# Altium footprint library Orion Sleep - Control Board - Rev 2.PcbLib: 102 footprints (part 4 of 7)
Each footprint in its own frame and in the unit in brackets; x right, y up, seen from the top. Pads: shape width x height; smd on the part's side, far side on the other; paste and mask are expansions set on the pad; w line width, h text height; cw(c..) or ccw(c..) is an arc to the next point about the centre after c.
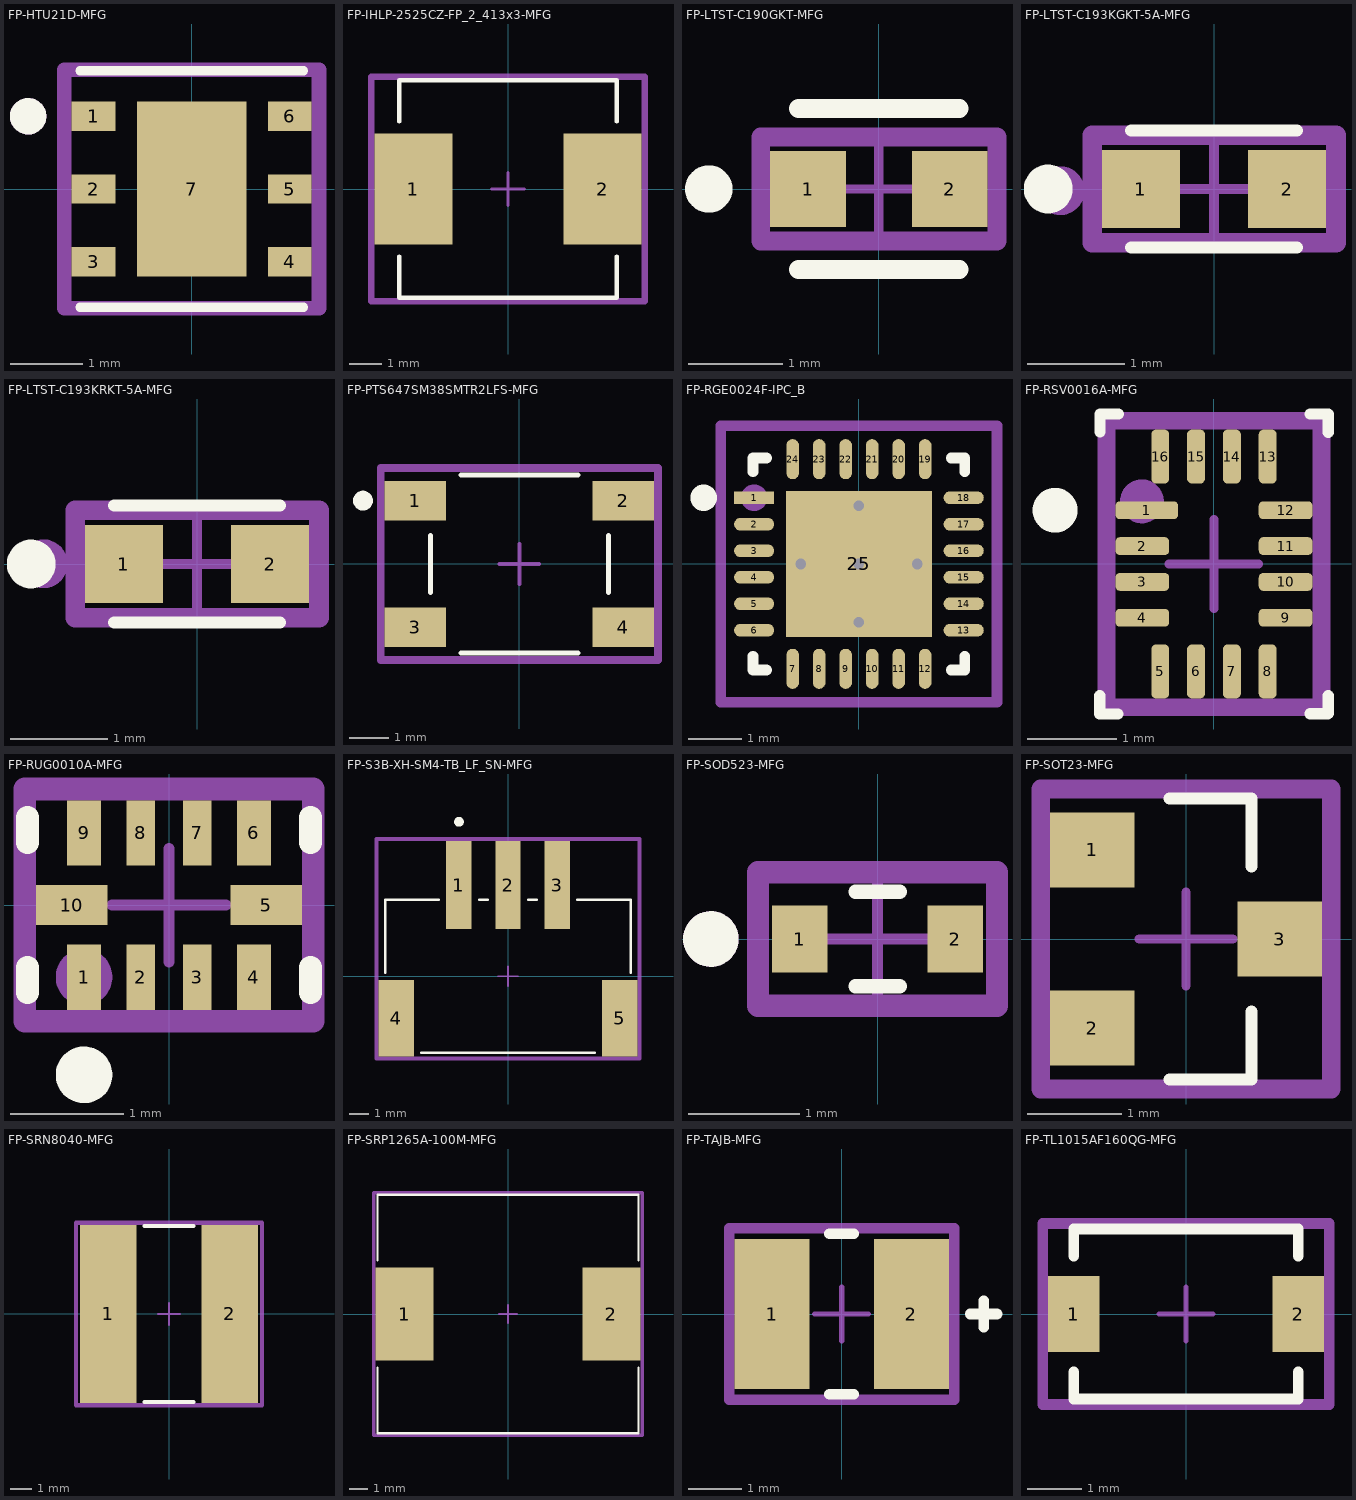
[diagram p3: the footprints below, top view; thin cyan lines are the x and y axes]

## FP-HTU21D-MFG [mm]
pads (7):
  rect 0.6x0.4 smd: 1(-1.35,1) 2(-1.35,0) 3(-1.35,-1) 4(1.35,-1) 5(1.35,0) 6(1.35,1)
  rect 1.5x2.4 smd: 7(0,0)
Top Overlay:
  circle w0.25: c-2.25,1 r0.125
  lines w0.127: -1.538,-1.625 1.538,-1.625 ; -1.538,1.625 1.538,1.625
Top Assembly:
  circle w0.25: c-2.25,1 r0.125
  lines w0.127: -1.75,-1.637 -1.75,1.637 1.75,1.637 1.75,-1.637 -1.75,-1.637
  text ".Designator" at -4.998,-0.333 h1
Top Courtyard:
  lines w0.2: -1.75,-1.637 -1.75,1.637 1.75,1.637 1.75,-1.637 -1.75,-1.637
Top Component Center:
  lines w0.1: -0.5,0 0.5,0 ; 0,-0.5 0,0.5
3D body "IC_TE_HTU21D_eec.STEP": height 1.01, standoff 0, extent -1.5,-1.5 1.5,1.5

## FP-IHLP-2525CZ-FP_2_413x3-MFG [mil]
pads (2):
  rect 95x135 smd: 1(-115,0) 2(115,0)
Top Overlay:
  lines w5: -132.36,-82.26 -132.36,-132.36 132.36,-132.36 132.36,-82.26 ; -132.36,82.26 -132.36,132.36 132.36,132.36 132.36,82.26
Top Assembly:
  lines w5: -166.44,-136.3 166.44,-136.3 166.44,136.3 -166.44,136.3 -166.44,-136.3
  text ".Designator" at -393.57,-26.24 h78.74
Top Courtyard:
  lines w7.87: -166.44,-136.3 166.44,-136.3 166.44,136.3 -166.44,136.3 -166.44,-136.3
Top Component Center:
  lines w3.94: -19.68,0 19.68,0 ; 0,-19.68 0,19.68
3D body "Ind_Vishay_IHLP2525CZER1R5M5A_eec.STEP": height 118.15, standoff 0, extent -135.04,-127.36 135.04,127.36

## FP-LTST-C190GKT-MFG [mm]
pads (2):
  rect 0.8x0.8 smd paste+0 mask+0: 1(-0.75,0) 2(0.75,0)
Top Overlay:
  circle w0.25: c-1.8,0 r0.125
  lines w0.2: -0.85,-0.85 0.85,-0.85 ; -0.85,0.85 0.85,0.85
Top Assembly:
  circle w0.127: c-1.8,0 r0.125
  lines w0.127: -1.25,-0.55 1.25,-0.55 1.25,0.55 -1.25,0.55 -1.25,-0.55
  text ".Designator" at -2.499,-0.167 h0.5
Top Courtyard:
  lines w0.2: -1.25,-0.55 1.25,-0.55 1.25,0.55 -1.25,0.55 -1.25,-0.55
Top Component Center:
  lines w0.1: -0.5,0 0.5,0 ; 0,-0.5 0,0.5
3D body "Diode_Lite-On_LTST-C190GKT_eec.STEP": height 0.9, standoff 0, extent -0.8,-0.4 0.8,0.4

## FP-LTST-C193KGKT-5A-MFG [mm]
pads (2):
  rect 0.8x0.8 smd: 1(-0.75,0) 2(0.75,0)
Top Overlay:
  circle w0.25: c-1.7,0 r0.125
  lines w0.127: -0.85,-0.6 0.85,-0.6 ; -0.85,0.6 0.85,0.6
Top Assembly:
  circle w0.25: c-1.576,-0.017 r0.125
  lines w0.127: -1.25,-0.55 1.25,-0.55 1.25,0.55 -1.25,0.55 -1.25,-0.55
  text ".Designator" at -2.499,-0.167 h0.5
Top Courtyard:
  lines w0.2: -1.25,-0.55 1.25,-0.55 1.25,0.55 -1.25,0.55 -1.25,-0.55
Top Component Center:
  lines w0.1: -0.5,0 0.5,0 ; 0,-0.5 0,0.5
3D body "Diode_Lite-On_LTST-C193KGKT-5A_eec.STEP": height 0.45, standoff 0, extent -0.8,-0.401 0.8,0.4

## FP-LTST-C193KRKT-5A-MFG [mm]
pads (2):
  rect 0.8x0.8 smd: 1(-0.75,0) 2(0.75,0)
Top Overlay:
  circle w0.25: c-1.7,0 r0.125
  lines w0.127: -0.85,-0.6 0.85,-0.6 ; -0.85,0.6 0.85,0.6
Top Assembly:
  circle w0.25: c-1.575,0.001 r0.125
  lines w0.127: -1.25,-0.55 1.25,-0.55 1.25,0.55 -1.25,0.55 -1.25,-0.55
  text ".Designator" at -2.499,-0.167 h0.5
Top Courtyard:
  lines w0.2: -1.25,-0.55 1.25,-0.55 1.25,0.55 -1.25,0.55 -1.25,-0.55
Top Component Center:
  lines w0.1: -0.5,0 0.5,0 ; 0,-0.5 0,0.5
3D body "Diode_Lite-On_LTST-C193KRKT-5A_eec.STEP": height 0.45, standoff 0, extent -0.8,-0.402 0.8,0.4

## FP-PTS647SM38SMTR2LFS-MFG [mm]
pads (4):
  rect 1.55x1 smd: 1(-2.625,1.6) 2(2.625,1.6) 3(-2.625,-1.6) 4(2.625,-1.6)
Top Overlay:
  circle w0.25: c-3.95,1.6 r0.125
  lines w0.127: -2.25,-0.725 -2.25,0.725 ; -1.475,-2.25 1.475,-2.25 ; -1.475,2.25 1.475,2.25 ; 2.25,-0.725 2.25,0.725
Top Assembly:
  circle w0.25: c-2.9,1.8 r0.125
  lines w0.127: -3.5,-2.425 -3.5,2.425 3.5,2.425 3.5,-2.425 -3.5,-2.425
  text ".Designator" at -9.997,-0.666 h2
Top Courtyard:
  lines w0.2: -3.5,-2.425 -3.5,2.425 3.5,2.425 3.5,-2.425 -3.5,-2.425
Top Component Center:
  lines w0.1: -0.5,0 0.5,0 ; 0,-0.5 0,0.5
3D body "Switch_C&K_Components_PTS647SM38SMTR2LFS_eec.STEP": height 3.8, standoff 0, extent -3.25,-2.25 3.25,2.25

## FP-RGE0024F-IPC_B [mm]
pads (25):
  rect 0.756x0.239 smd: 1(-1.978,1.25)
  rrect100% 0.756x0.239 smd: 2(-1.978,0.75) 3(-1.978,0.25) 4(-1.978,-0.25) 5(-1.978,-0.75) 6(-1.978,-1.25) 13(1.978,-1.25) 14(1.978,-0.75) 15(1.978,-0.25) 16(1.978,0.25) 17(1.978,0.75) 18(1.978,1.25)
  rrect100% 0.239x0.756 smd: 7(-1.25,-1.978) 8(-0.75,-1.978) 9(-0.25,-1.978) 10(0.25,-1.978) 11(0.75,-1.978) 12(1.25,-1.978) 19(1.25,1.978) 20(0.75,1.978) 21(0.25,1.978) 22(-0.25,1.978) 23(-0.75,1.978) 24(-1.25,1.978)
  rect 2.75x2.75 smd paste-2539.97: 25(0,0)
via 0,1.1 diameter 0.4 hole 0.2
via 0,-1.1 diameter 0.4 hole 0.2
via -1.1,0 diameter 0.4 hole 0.2
via 1.1,0 diameter 0.4 hole 0.2
via 0,0 diameter 0.4 hole 0.2
Top Overlay:
  circle w0.25: c-2.931,1.25 r0.125
  lines w0.2: -2,-1.745 -2,-2 -1.745,-2 ; -2,1.745 -2,2 -1.745,2 ; 1.745,-2 2,-2 2,-1.745 ; 1.745,2 2,2 2,1.745
Top Paste:
  region: -0.133,-1.367 -0.133,-0.133 -1.367,-0.133 -1.367,-1.367
  region: 0.133,1.367 0.133,0.133 1.367,0.133 1.367,1.367
  region: 1.367,-0.133 0.133,-0.133 0.133,-1.367 1.367,-1.367
  rectangle: -1.367,0.133 -0.133,1.367
Top Assembly:
  circle w0.25: c-1.979,1.25 r0.125
  lines w0.127: -2.606,-2.606 2.606,-2.606 2.606,2.606 -2.606,2.606 -2.606,-2.606
  text ".Designator" at -4.998,-0.333 h1
Top Courtyard:
  lines w0.2: -2.606,-2.606 2.606,-2.606 2.606,2.606 -2.606,2.606 -2.606,-2.606
Top Component Center:
  lines w0.1: -0.5,0 0.5,0 ; 0,-0.5 0,0.5
3D body "IC_Texas_Instruments_DRV8701PRGER_eec.STEP": height 1, standoff 0, extent -2,-2 2,2

## FP-RSV0016A-MFG [mm]
pads (16):
  rrect50% 0.7x0.2 smd mask+0.045: 1(-0.75,0.6)
  rrect50% 0.6x0.2 smd mask+0.045: 2(-0.8,0.2) 3(-0.8,-0.2) 4(-0.8,-0.6) 9(0.8,-0.6) 10(0.8,-0.2) 11(0.8,0.2) 12(0.8,0.6)
  rrect50% 0.2x0.6 smd mask+0.045: 5(-0.6,-1.2) 6(-0.2,-1.2) 7(0.2,-1.2) 8(0.6,-1.2) 13(0.6,1.2) 14(0.2,1.2) 15(-0.2,1.2) 16(-0.6,1.2)
Top Overlay:
  circle w0.25: c-1.775,0.6 r0.125
  lines w0.127: -1.274,-1.675 -1.074,-1.675 ; -1.274,-1.671 -1.274,-1.471 ; -1.273,1.475 -1.273,1.675 ; -1.27,1.675 -1.07,1.675 ; 1.072,-1.674 1.272,-1.674 ; 1.074,1.675 1.274,1.675 ; 1.275,-1.669 1.275,-1.469 ; 1.275,1.472 1.275,1.672
Top Assembly:
  circle w0.25: c-0.805,0.7 r0.12
  lines w0.127: -1.2,-1.6 1.2,-1.6 1.2,1.6 -1.2,1.6 -1.2,-1.6
  text ".Designator" at -2.499,-0.167 h0.5
Top Courtyard:
  lines w0.2: -1.2,-1.6 1.2,-1.6 1.2,1.6 -1.2,1.6 -1.2,-1.6
Top Component Center:
  lines w0.1: -0.5,0 0.5,0 ; 0,-0.5 0,0.5
3D body "IC_Texas_Instruments_TCAL9538RSVR_eec.STEP": height 0.55, standoff 0, extent -0.9,-1.3 0.9,1.3

## FP-RUG0010A-MFG [mm]
pads (10):
  rect 0.3x0.575 smd mask+0.045: 1(-0.75,-0.637) 4(0.75,-0.637) 6(0.75,0.637) 9(-0.75,0.637)
  rect 0.25x0.575 smd mask+0.045: 2(-0.25,-0.637) 3(0.25,-0.637) 7(0.25,0.637) 8(-0.25,0.637)
  rect 0.63x0.35 smd mask+0.045: 5(0.86,0) 10(-0.86,0)
Top Overlay:
  circle w0.25: c-0.75,-1.5 r0.125
  lines w0.2: -1.25,-0.775 -1.25,-0.55 ; -1.25,0.55 -1.25,0.775 ; 1.25,-0.775 1.25,-0.55 ; 1.25,0.55 1.25,0.775
Top Paste:
  rectangle: -1.15,-0.15 -0.57,0.15
  rectangle: 0.57,-0.15 1.15,0.15
  rectangle: -0.875,-0.9 -0.625,-0.375
  rectangle: -0.375,-0.9 -0.125,-0.375
  rectangle: 0.125,-0.9 0.375,-0.375
  rectangle: 0.625,-0.9 0.875,-0.375
  rectangle: -0.875,0.375 -0.625,0.9
  rectangle: -0.375,0.375 -0.125,0.9
  rectangle: 0.125,0.375 0.375,0.9
  rectangle: 0.625,0.375 0.875,0.9
Top Assembly:
  circle w0.25: c-0.75,-0.637 r0.125
  lines w0.127: -1.275,-1.025 1.275,-1.025 1.275,1.025 -1.275,1.025 -1.275,-1.025
  text ".Designator" at -2.499,-0.167 h0.5
Top Courtyard:
  lines w0.2: -1.275,-1.025 1.275,-1.025 1.275,1.025 -1.275,1.025 -1.275,-1.025
Top Component Center:
  lines w0.1: -0.5,0 0.5,0 ; 0,-0.5 0,0.5
3D body "IC_Texas_Instruments_TLA2024IRUGR_eec.STEP": height 0.4, standoff 0, extent -1,-0.75 1,0.75

## FP-S3B-XH-SM4-TB_LF_SN-MFG [mm]
pads (5):
  rect 1.3x4.5 smd: 1(-2.5,4.65) 2(0,4.65) 3(2.5,4.65)
  rect 1.8x3.9 smd: 4(-5.7,-2.15) 5(5.7,-2.15)
Top Overlay:
  circle w0.25: c-2.5,7.875 r0.125
  lines w0.127: -6.25,0.175 -6.25,3.9 -3.525,3.9 ; -4.425,-3.9 4.425,-3.9 ; -1.475,3.9 -1.025,3.9 ; 1.025,3.9 1.475,3.9 ; 3.525,3.9 6.25,3.9 6.25,0.175
Top Assembly:
  circle w0.25: c-2.5,6.3 r0.3
  lines w0.127: -6.7,-4.2 6.7,-4.2 6.7,7 -6.7,7 -6.7,-4.2
  text ".Designator" at -9.997,0.734 h2
Top Courtyard:
  lines w0.2: -6.7,-4.2 6.7,-4.2 6.7,7 -6.7,7 -6.7,-4.2
Top Component Center:
  lines w0.1: -0.5,0 0.5,0 ; 0,-0.5 0,0.5
3D body "Conn_JST_S3B-XH-SM4-TB_LF_SN_eec.STEP": height 6, standoff 0, extent -6.225,-3.9 6.225,6.1

## FP-SOD523-MFG [mm]
pads (2):
  rect 0.5x0.6 smd: 1(-0.7,0) 2(0.7,0)
Top Overlay:
  circle w0.25: c-1.5,0 r0.125
  lines w0.127: -0.2,-0.425 0.2,-0.425 ; -0.2,0.425 0.2,0.425
Top Paste:
  rectangle: 0.5,-0.25 0.9,0.25
  rectangle: -0.9,-0.25 -0.5,0.25
Top Assembly:
  circle w0.25: c-1.5,0 r0.125
  lines w0.127: -1.075,-0.6 -1.075,0.6 1.075,0.6 1.075,-0.6 -1.075,-0.6
  text ".Designator" at -2.499,-0.167 h0.5
Top Courtyard:
  lines w0.2: -1.075,-0.6 -1.075,0.6 1.075,0.6 1.075,-0.6 -1.075,-0.6
Top Component Center:
  lines w0.1: -0.5,0 0.5,0 ; 0,-0.5 0,0.5
3D body "Diode_Nexperia_BAS516_315_eec.STEP": height 0.65, standoff 0, extent -0.8,-0.4 0.8,0.4

## FP-SOT23-MFG [mm]
pads (3):
  rect 0.9x0.8 smd: 1(-1,0.95) 2(-1,-0.95) 3(1,0)
Top Overlay:
  lines w0.127: -0.175,-1.5 0.7,-1.5 0.7,-0.775 ; -0.175,1.5 0.7,1.5 0.7,0.775
Top Assembly:
  lines w0.127: -1.55,-1.6 -1.55,1.6 1.55,1.6 1.55,-1.6 -1.55,-1.6
  text ".Designator" at -4.998,-0.333 h1
Top Courtyard:
  lines w0.2: -1.55,-1.6 -1.55,1.6 1.55,1.6 1.55,-1.6 -1.55,-1.6
Top Component Center:
  lines w0.1: -0.5,0 0.5,0 ; 0,-0.5 0,0.5
3D body "Diode_Diodes_Inc_BZX84C18-7-F_eec.STEP": height 1.1, standoff 0, extent -1.2,-1.45 1.2,1.45

## FP-SRN8040-MFG [mm]
pads (2):
  rect 2.6x8.2 smd paste+0 mask+0: 1(-2.8,0) 2(2.8,0)
Top Overlay:
  lines w0.2: -1.125,-4.05 1.125,-4.05 ; -1.125,4.05 1.125,4.05
Top Assembly:
  lines w0.127: -4.275,-4.2 -4.275,4.2 4.275,4.2 4.275,-4.2 -4.275,-4.2
  text ".Designator" at -4.998,-0.333 h1
Top Courtyard:
  lines w0.2: -4.275,-4.2 -4.275,4.2 4.275,4.2 4.275,-4.2 -4.275,-4.2
Top Component Center:
  lines w0.1: -0.5,0 0.5,0 ; 0,-0.5 0,0.5
3D body "Ind_Bourns_Inc_SRN8040-1R0Y_eec.STEP": height 4, standoff 0, extent -4.075,-3.95 4.075,3.95

## FP-SRP1265A-100M-MFG [mm]
pads (2):
  rect 3.1x5 smd: 1(-5.55,0) 2(5.55,0)
Top Overlay:
  lines w0.127: -7,-2.875 -7,-6.4 7,-6.4 7,-2.875 ; -7,2.875 -7,6.4 7,6.4 7,2.875
Top Assembly:
  lines w0.127: -7.2,-6.5 7.2,-6.5 7.2,6.5 -7.2,6.5 -7.2,-6.5
  text ".Designator" at -9.997,-0.666 h2
Top Courtyard:
  lines w0.2: -7.2,-6.5 7.2,-6.5 7.2,6.5 -7.2,6.5 -7.2,-6.5
Top Component Center:
  lines w0.1: -0.5,0 0.5,0 ; 0,-0.5 0,0.5
3D body "Ind_Bourns_SRP1265A-100M_eec.STEP": height 6.5, standoff 0, extent -6.75,-6.25 6.75,6.25

## FP-TAJB-MFG [mm]
pads (2):
  rect 1.4x2.8 smd paste+0 mask+0: 1(-1.3,0) 2(1.3,0)
Top Overlay:
  lines w0.2: -0.225,-1.5 0.225,-1.5 ; -0.225,1.5 0.225,1.5 ; 2.4,0 2.9,0 ; 2.65,-0.25 2.65,0.25
Top Assembly:
  lines w0.127: 2.4,0 2.9,0 ; 2.65,-0.25 2.65,0.25 ; -2.1,-1.6 2.1,-1.6 2.1,1.6 -2.1,1.6 -2.1,-1.6
  text ".Designator" at -4.998,-0.333 h1
Top Courtyard:
  lines w0.2: -2.1,-1.6 2.1,-1.6 2.1,1.6 -2.1,1.6 -2.1,-1.6
Top Component Center:
  lines w0.1: -0.5,0 0.5,0 ; 0,-0.5 0,0.5
3D body "Cap_AVX_TAJB335M035RNJ_eec.STEP": height 0.25, standoff 0, extent -2.1,-1.6 2.1,1.6

## FP-TL1015AF160QG-MFG [mm]
pads (2):
  rect 0.95x1.4 smd paste+0 mask+0: 1(-2.075,0) 2(2.075,0)
Top Overlay:
  lines w0.2: -2.075,-1.075 -2.075,-1.575 2.075,-1.575 2.075,-1.075 ; -2.075,1.075 -2.075,1.575 2.075,1.575 2.075,1.075
Top Assembly:
  lines w0.127: -2.65,-1.675 2.65,-1.675 2.65,1.675 -2.65,1.675 -2.65,-1.675
  text ".Designator" at -4.998,-0.333 h1
Top Courtyard:
  lines w0.2: -2.65,-1.675 2.65,-1.675 2.65,1.675 -2.65,1.675 -2.65,-1.675
Top Component Center:
  lines w0.1: -0.5,0 0.5,0 ; 0,-0.5 0,0.5
3D body "Switch_E-Switch_TL1015AF160QG_eec.STEP": height 0.25, standoff 0, extent -2.65,-1.675 2.65,1.675